# EAGLE library part VREG_TPS76833_ULDO_FAST-TRANSIENT_1A-3.3V (library MrSwirlyEyes)
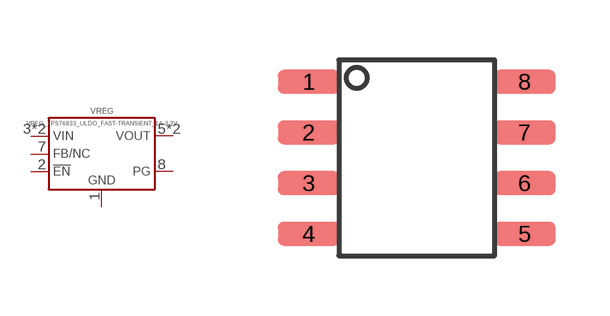
[diagram p15: symbol with the pads of SOIC-8_W3.9MM; footprint SOIC-8_W3.9MM]

Designator prefix VREG

## VREG_TPS76833_ULDO_FAST-TRANSIENT_1A-3.3VTPS76833QDR_1A-3.3V (CREATOR: MrSwirlyEyes; DATASHEET: http://www.ti.com/lit/ds/symlink/tps768.pdf; DIST: Digikey; DISTLINK: https://www.digikey.com/products/en?keywords=296-46395-1-ND; DISTPN: 296-46395-1-ND; MFR: Texas Instruments; MPN: TPS76833QDR; VALUE: 1A/3.3V)  [SOIC-8_W3.9MM]
1  GND
2  !EN
3  VIN
4  VIN
5  VOUT
6  VOUT
7  FB/NC
8  PG

## Footprint SOIC-8_W3.9MM (pad centres in mm)
smd 1.55 x 0.6: 1 -2.7,1.905; 2 -2.7,0.635; 3 -2.7,-0.635; 4 -2.7,-1.905; 5 2.7,-1.905; 6 2.7,-0.635; 7 2.7,0.635; 8 2.7,1.905